# EAGLE library part PCA9685 (library ds_ic_peripherals)
16-Channel, 12-Bit PWM Fm+ I²C-Bus LED Controller
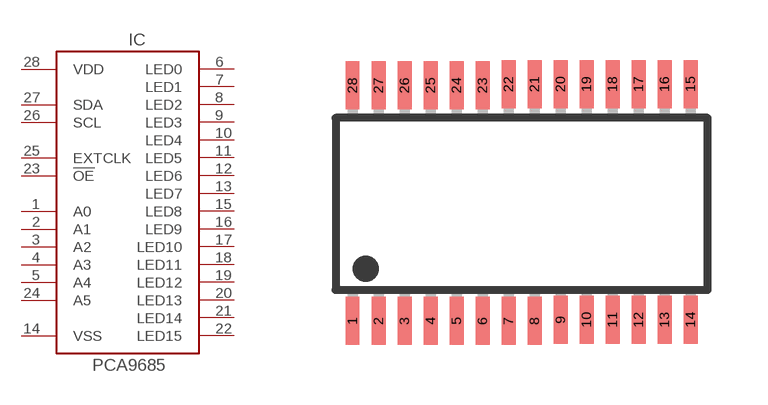
[diagram p26: symbol with the pads of TSSOP28; footprint TSSOP28]

Designator prefix IC

## PCA9685  [TSSOP28]
1  A0
2  A1
3  A2
4  A3
5  A4
6  LED0
7  LED1
8  LED2
9  LED3
10  LED4
11  LED5
12  LED6
13  LED7
14  VSS
15  LED8
16  LED9
17  LED10
18  LED11
19  LED12
20  LED13
21  LED14
22  LED15
23  !OE
24  A5
25  EXTCLK
26  SCL
27  SDA
28  VDD

## Footprint TSSOP28 (pad centres in mm)
smd 0.35 x 1.2: 1 -4.307,-2.925; 2 -3.657,-2.925; 3 -3.007,-2.925; 4 -2.357,-2.925; 5 -1.707,-2.925; 6 -1.057,-2.925; 7 -0.407,-2.925; 8 0.243,-2.925; 9 0.893,-2.895; 10 1.543,-2.895; 11 2.193,-2.895; 12 2.843,-2.895; 13 3.493,-2.895; 14 4.143,-2.895; 15 4.143,2.995; 16 3.493,2.995; 17 2.843,2.995; 18 2.193,2.995; 19 1.543,2.995; 20 0.893,2.995; 21 0.243,2.995; 22 -0.407,2.995; 23 -1.057,2.965; 24 -1.707,2.965; 25 -2.357,2.965; 26 -3.007,2.965; 27 -3.657,2.965; 28 -4.307,2.965